# Altium footprint library MC1631-1.PcbLib: 1 footprints
Each footprint in its own frame and in the unit in brackets; x right, y up, seen from the top. Pads: shape width x height; smd on the part's side, far side on the other; paste and mask are expansions set on the pad; w line width, h text height; cw(c..) or ccw(c..) is an arc to the next point about the centre after c.
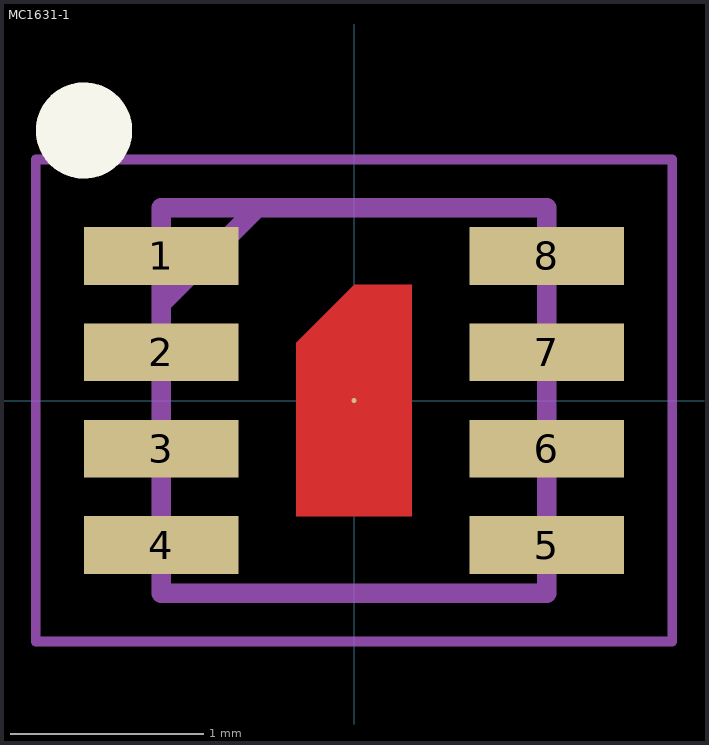
[diagram p0: the footprint, top view; thin cyan lines are the x and y axes]

## MC1631-1 [mm]
height 1.05
pads (9):
  rect 0.8x0.3 smd mask+0.05: 1(-1,0.75) 2(-1,0.25) 3(-1,-0.25) 4(-1,-0.75) 5(1,-0.75) 6(1,-0.25) 7(1,0.25) 8(1,0.75)
  round 0.025 smd mask+0.05: 9(0,0)
Top Layer:
  region: -0.3,-0.6 0.3,-0.6 0.3,0.6 0,0.6 -0.3,0.3
Top Overlay:
  circle w0.25: c-1.4,1.4 r0.125
Mechanical 13:
  lines w0.1: -1,0.5 -0.5,1 ; -1,-1 1,-1 1,1 -1,1 -1,-1
Mechanical 15:
  lines w0.05: -1.65,-1.25 1.65,-1.25 1.65,1.25 -1.65,1.25 -1.65,-1.25
3D body "PMA2-183LN+.stp": height 1.05, standoff 0, extent -1.05,-1 1.05,1